# Altium schematic symbol library RCU.SchLib: 94 symbols
Pins are listed as number, name and electrical type; pins without a type are passive.

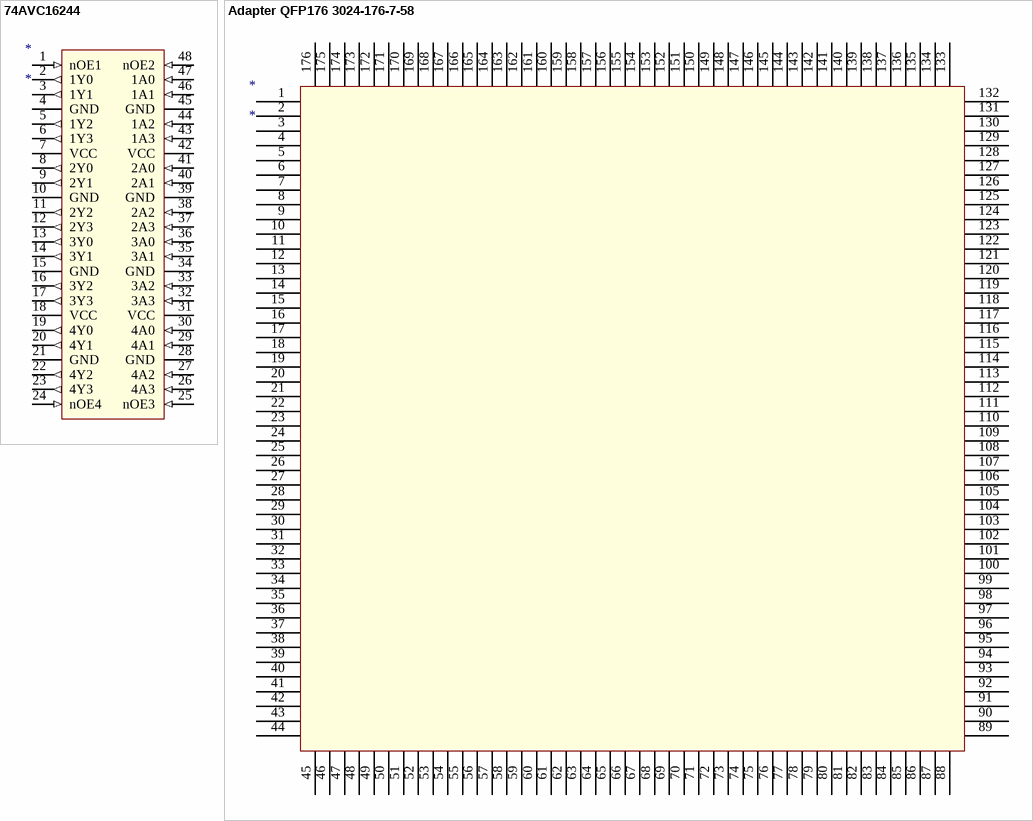
[diagram p0: symbols 74AVC16244 to Adapter QFP176 3024-176-7-58]

## 74AVC16244
designator *
footprint 74AVC16244
pins: 1 nOE1 (in), 2 1Y0 (out), 3 1Y1 (out), 4 GND, 5 1Y2 (out), 6 1Y3 (out), 7 VCC (power), 8 2Y0 (out), 9 2Y1 (out), 10 GND, 11 2Y2 (out), 12 2Y3 (out), 13 3Y0 (out), 14 3Y1 (out), 15 GND, 16 3Y2 (out), 17 3Y3 (out), 18 VCC (power), 19 4Y0 (out), 20 4Y1 (out), 21 GND, 22 4Y2 (out), 23 4Y3 (out), 24 nOE4 (in), 25 nOE3 (in), 26 4A3 (in), 27 4A2 (in), 28 GND, 29 4A1 (in), 30 4A0 (in), 31 VCC (power), 32 3A3 (in), 33 3A2 (in), 34 GND, 35 3A1 (in), 36 3A0 (in), 37 2A3 (in), 38 2A2 (in), 39 GND, 40 2A1 (in), 41 2A0 (in), 42 VCC (power), 43 1A3 (in), 44 1A2 (in), 45 GND, 46 1A1 (in), 47 1A0 (in), 48 nOE2 (in)

## Adapter QFP176 3024-176-7-58
designator *
footprint SOCKET_176_3024-176-7-58
pins: 1, 2, 3, 4, 5, 6, 7, 8, 9, 10, 11, 12, 13, 14, 15, 16, 17, 18, 19, 20, 21, 22, 23, 24, 25, 26, 27, 28, 29, 30, 31, 32, 33, 34, 35, 36, 37, 38, 39, 40, 41, 42, 43, 44, 45, 46, 47, 48, 49, 50, 51, 52, 53, 54, 55, 56, 57, 58, 59, 60, 61, 62, 63, 64, 65, 66, 67, 68, 69, 70, 71, 72, 73, 74, 75, 76, 77, 78, 79, 80, 81, 82, 83, 84, 85, 86, 87, 88, 89, 90, 91, 92, 93, 94, 95, 96, 97, 98, 99, 100, 101, 102, 103, 104, 105, 106, 107, 108, 109, 110, 111, 112, 113, 114, 115, 116, 117, 118, 119, 120, 121, 122, 123, 124, 125, 126, 127, 128, 129, 130, 131, 132, 133, 134, 135, 136, 137, 138, 139, 140, 141, 142, 143, 144, 145, 146, 147, 148, 149, 150, 151, 152, 153, 154, 155, 156, 157, 158, 159, 160, 161, 162, 163, 164, 165, 166, 167, 168, 169, 170, 171, 172, 173, 174, 175, 176

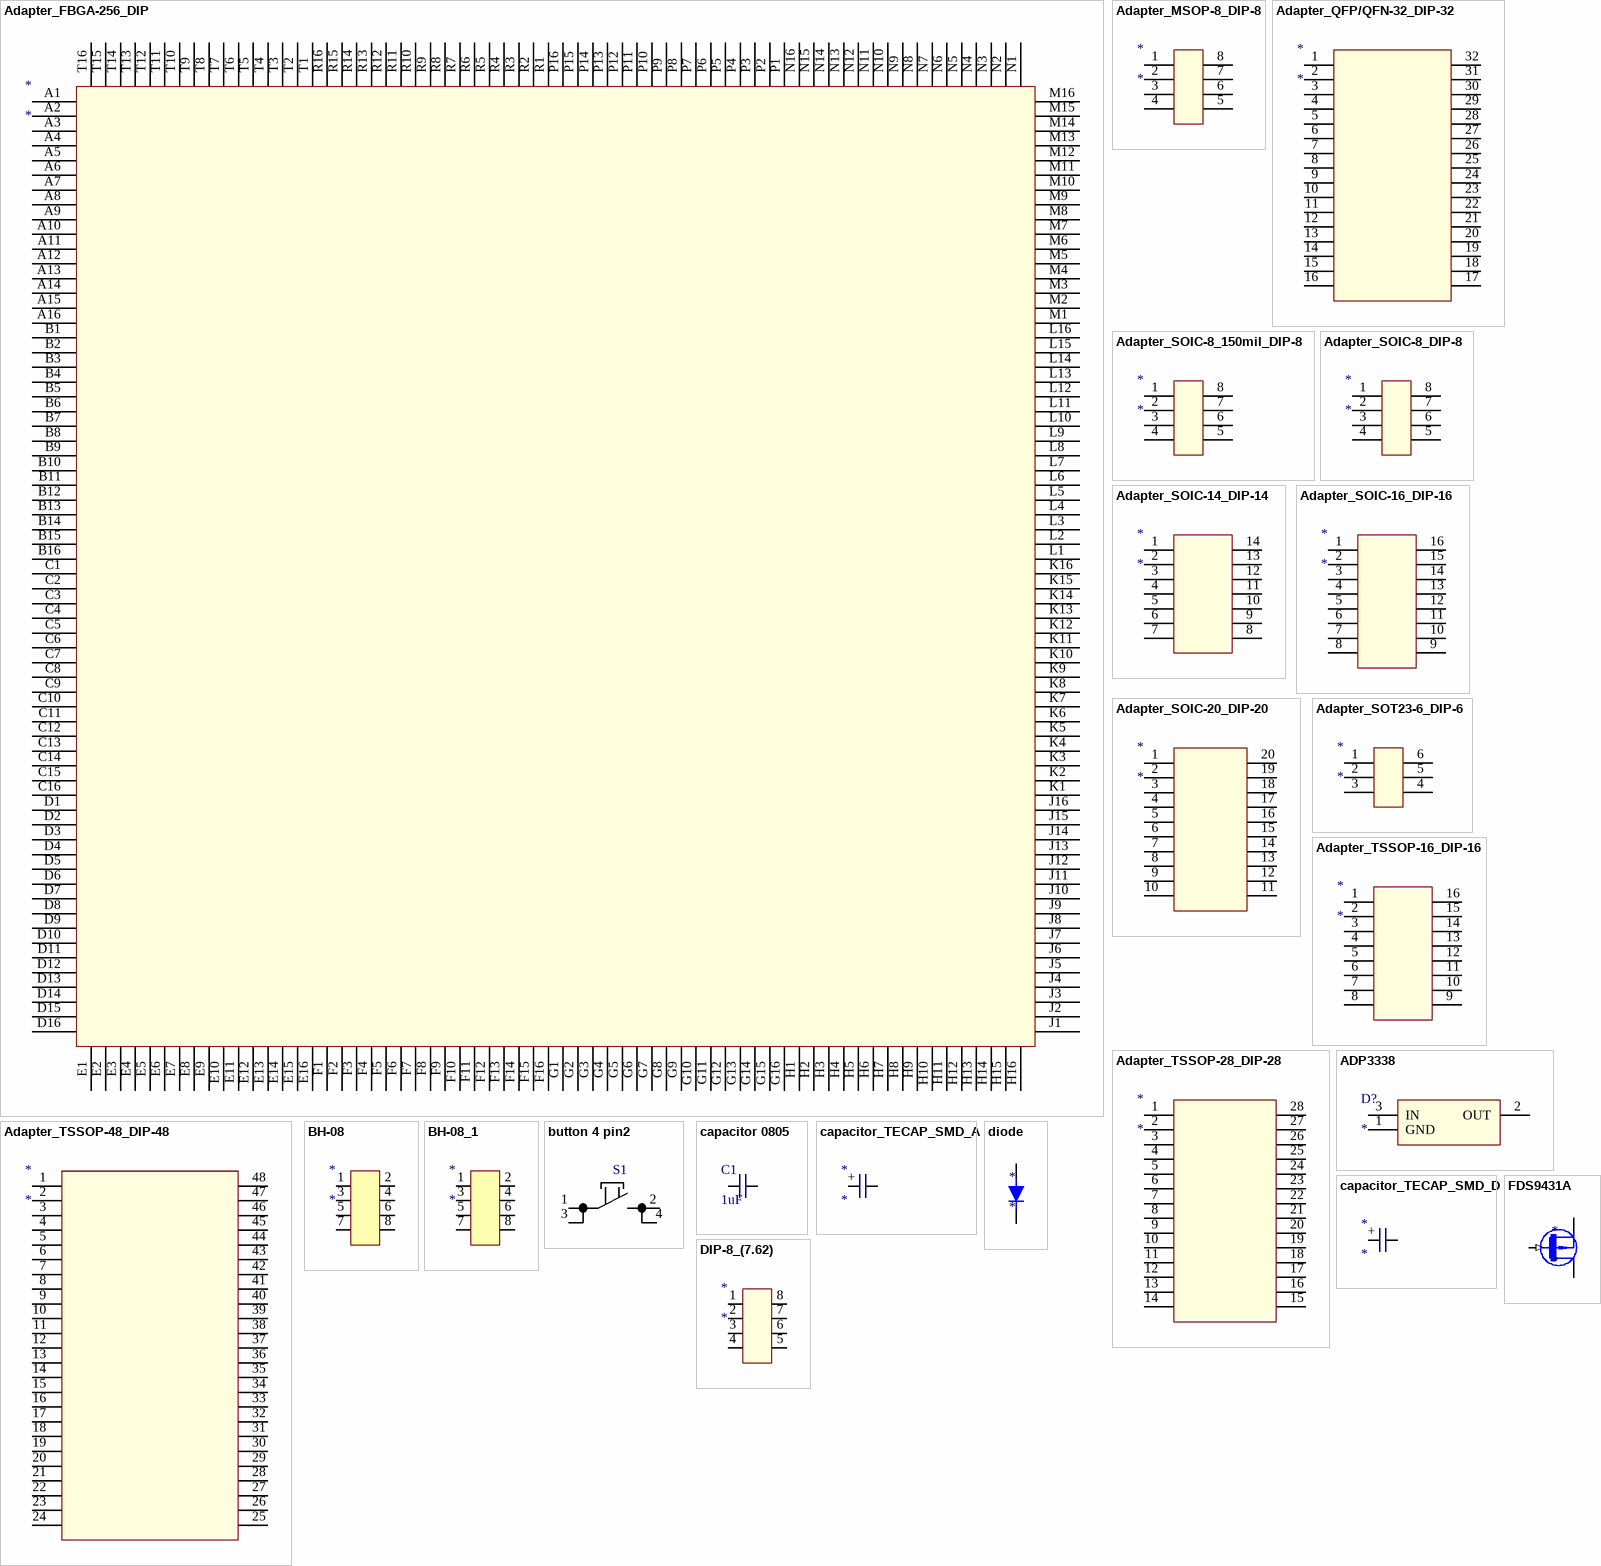
[diagram p1: symbols Adapter_FBGA-256_DIP to FDS9431A]

## Adapter_FBGA-256_DIP
designator *
footprint Adapter_FBGA-256_DIP
pins: A1, A2, A3, A4, A5, A6, A7, A8, A9, A10, A11, A12, A13, A14, A15, A16, B1, B2, B3, B4, B5, B6, B7, B8, B9, B10, B11, B12, B13, B14, B15, B16, C1, C2, C3, C4, C5, C6, C7, C8, C9, C10, C11, C12, C13, C14, C15, C16, D1, D2, D3, D4, D5, D6, D7, D8, D9, D10, D11, D12, D13, D14, D15, D16, E1, E2, E3, E4, E5, E6, E7, E8, E9, E10, E11, E12, E13, E14, E15, E16, F1, F2, F3, F4, F5, F6, F7, F8, F9, F10, F11, F12, F13, F14, F15, F16, G1, G2, G3, G4, G5, G6, G7, G8, G9, G10, G11, G12, G13, G14, G15, G16, H1, H2, H3, H4, H5, H6, H7, H8, H9, H10, H11, H12, H13, H14, H15, H16, J1, J2, J3, J4, J5, J6, J7, J8, J9, J10, J11, J12, J13, J14, J15, J16, K1, K2, K3, K4, K5, K6, K7, K8, K9, K10, K11, K12, K13, K14, K15, K16, L1, L2, L3, L4, L5, L6, L7, L8, L9, L10, L11, L12, L13, L14, L15, L16, M1, M2, M3, M4, M5, M6, M7, M8, M9, M10, M11, M12, M13, M14, M15, M16, N1, N2, N3, N4, N5, N6, N7, N8, N9, N10, N11, N12, N13, N14, N15, N16, P1, P2, P3, P4, P5, P6, P7, P8, P9, P10, P11, P12, P13, P14, P15, P16, R1, R2, R3, R4, R5, R6, R7, R8, R9, R10, R11, R12, R13, R14, R15, R16, T1, T2, T3, T4, T5, T6, T7, T8, T9, T10, T11, T12, T13, T14, T15, T16

## Adapter_MSOP-8_DIP-8
designator *
footprint Adapter_MSOP-8_DIP-8
pins: 1 35, 2 36, 3 37, 4 38, 5 39, 6 40, 7 41, 8 42

## Adapter_QFP/QFN-32_DIP-32
designator *
AE-T-QFN32-02
footprint Adapter_QFP/QFN-32_DIP-32 (AE-T-QFN32-02)
pins: 1, 2, 3, 4, 5, 6, 7, 8, 9, 10, 11, 12, 13, 14, 15, 16, 17, 18, 19, 20, 21, 22, 23, 24, 25, 26, 27, 28, 29, 30, 31, 32

## Adapter_SOIC-8_150mil_DIP-8
designator *
footprint Adapter_SOIC-8_150mil_DIP-8
pins: 1 35, 2 36, 3 37, 4 38, 5 39, 6 40, 7 41, 8 42

## Adapter_SOIC-8_DIP-8
designator *
footprint Adapter_SOIC-8_DIP-8
pins: 1 35, 2 36, 3 37, 4 38, 5 39, 6 40, 7 41, 8 42

## Adapter_SOIC-14_DIP-14
designator *
footprint Adapter_SOIC-14_DIP-14 (652B0142211)
pins: 1, 2, 3, 4, 5, 6, 7, 8, 9, 10, 11, 12, 13, 14

## Adapter_SOIC-16_DIP-16
designator *
footprint Adapter_SOIC-16_DIP-16
pins: 1, 2, 3, 4, 5, 6, 7, 8, 9, 10, 11, 12, 13, 14, 15, 16

## Adapter_SOIC-20_DIP-20
designator *
footprint Adapter_SOIC-20_DIP-20
pins: 1, 2, 3, 4, 5, 6, 7, 8, 9, 10, 11, 12, 13, 14, 15, 16, 17, 18, 19, 20

## Adapter_SOT23-6_DIP-6
designator *
footprint Adapter_SOT23-6_DIP-6
pins: 1, 2, 3, 4, 5, 6

## Adapter_TSSOP-16_DIP-16
designator *
footprint Adapter_TSSOP-16_DIP-16
pins: 1, 2, 3, 4, 5, 6, 7, 8, 9, 10, 11, 12, 13, 14, 15, 16

## Adapter_TSSOP-28_DIP-28
designator *
from aliexpress
footprint Adapter_TSSOP-28_DIP-28 (from aliexpress)
pins: 1 0, 2 1, 3 2, 4 3, 5 4, 6 5, 7 6, 8 7, 9 8, 10 9, 11 10, 12 11, 13 12, 14 13, 15 14, 16 15, 17 16, 18 17, 19 18, 20 19, 21 20, 22 21, 23 22, 24 23, 25 24, 26 25, 27 26, 28 27

## Adapter_TSSOP-48_DIP-48
designator *
footprint Adapter_TSSOP-48_DIP-48
pins: 1, 2, 3, 4, 5, 6, 7, 8, 9, 10, 11, 12, 13, 14, 15, 16, 17, 18, 19, 20, 21, 22, 23, 24, 25, 26, 27, 28, 29, 30, 31, 32, 33, 34, 35, 36, 37, 38, 39, 40, 41, 42, 43, 44, 45, 46, 47, 48

## ADP3338
designator D?
footprint SOT223 (SOT-223/SC-73; 4 Leads; Body 6.7 x 7.3 mm, inc. leads (LxW max))
pins: 1 GND, 2 OUT, 3 IN

## BH-08
designator *
footprint BH-08
pins: 1 0, 2, 3, 4, 5, 6, 7, 8

## BH-08_1
designator *
footprint BH-08
pins: 1 0, 2, 3, 4, 5, 6, 7, 8

## button 4 pin2
designator S1, comment button 4 pin  (value not drawn)
footprint button 4 pin
pins: 1 5, 2, 3, 4

## capacitor 0805
designator C1, comment 1uF
footprint C_0805
pins: 1, 2

## capacitor_TECAP_SMD_A
designator *
footprint C_TECAP_A
pins: 2, +

## capacitor_TECAP_SMD_D
designator *
footprint Model Name (Footprint not found)
footprint C_TECAP_D (Capacitor, SM Tantalum; Body 7.3 x 4.3 mm (LxW typ))
pins: 2, +

## diode
designator *
footprint SOT23-3M (SOT23, 3-Leads, Body 2.9x1.3mm, Pitch 0.95mm, Lead Span 2.5mm)
pins: 1 C, 3 A

## DIP-8_(7.62)
designator *
footprint DIP-8_(7.62)
pins: 1, 2, 3, 4, 5, 6, 7, 8

## FDS9431A
designator *
footprint SO8-150
pins: 1 S (oe), 2 S (oe), 3 S (oe), 4 G (in), 5 D (oc), 6 D (oc), 7 D (oc), 8 D (oc)

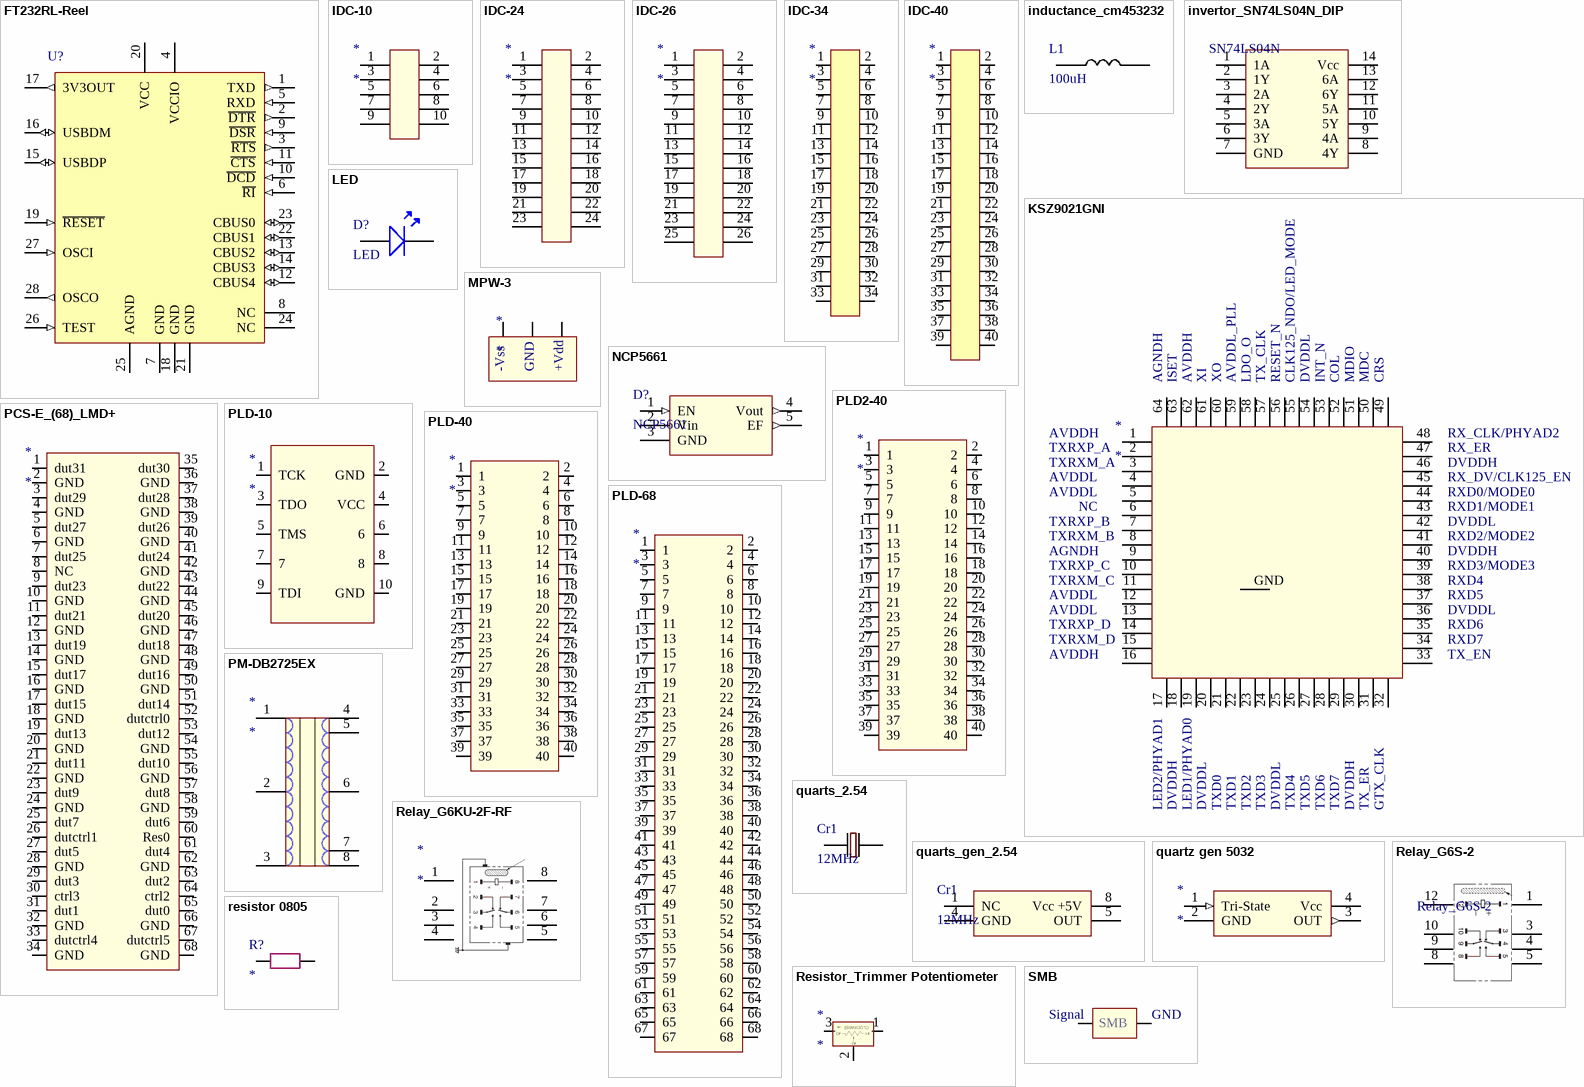
[diagram p2: symbols FT232RL-Reel to SMB]

## FT232RL-Reel
designator U?
USB UART Asynchronous Serial Data Transfer Chip, SSOP-28, Tape and Reel; Published: 19-Aug-2010; DatasheetVersion: ver 2.07, Jul-2010; PackageVersion: 2010; PackageReference: SSOP-28; Publisher: Altium Limited; PackageDescription: 28-Pin Small Outline Package 0.65 mm Pitch; ComponentLink1Description: Manufacturer Link; ComponentLink1URL: http://www.ftdichip.com/Products/ICs/FT232R.htm; ComponentLink2Description: Datasheet; ComponentLink2URL: http://www.ftdichip.com/Support/Documents/DataSheets/ICs/DS_FT232R.pdf
footprint SSOP-28_M (SOP, 28-Leads, Body 10.2x5.3mm, Pitch 0.65mm, IPC Low Density)
pins: 1 TXD (out), 2 ~{DTR} (out), 3 ~{RTS} (out), 4 VCCIO (power), 5 RXD (in), 6 ~{RI} (in), 7 GND (power), 8 NC, 9 ~{DSR} (in), 10 ~{DCD} (in), 11 ~{CTS} (in), 12 CBUS4 (io), 13 CBUS2 (io), 14 CBUS3 (io), 15 USBDP (io), 16 USBDM (io), 17 3V3OUT (out), 18 GND (power), 19 ~{RESET} (in), 20 VCC (power), 21 GND (power), 22 CBUS1 (io), 23 CBUS0 (io), 24 NC, 25 AGND (power), 26 TEST (in), 27 OSCI (in), 28 OSCO (out)

## IDC-10
designator *
разъем 4130
footprint IDC-10
pins: 1, 2, 3, 4, 5, 6, 7, 8, 9, 10

## IDC-24
designator *
footprint IDC-24
pins: 1 145, 2, 3, 4, 5, 6, 7, 8, 9, 10, 11, 12, 13, 14, 15, 16, 17, 18, 19, 20, 21, 22, 23, 24

## IDC-26
designator *
разъем 4142
footprint IDC-26
pins: 1 145, 2, 3, 4, 5, 6, 7, 8, 9, 10, 11, 12, 13, 14, 15, 16, 17, 18, 19, 20, 21, 22, 23, 24, 25, 26

## IDC-34
designator *
разъем 6556
footprint IDC-34
pins: 1 0, 2, 3, 4, 5, 6, 7, 8, 9, 10, 11, 12, 13, 14, 15, 16, 17, 18, 19, 20, 21, 22, 23, 24, 25, 26, 27, 28, 29, 30, 31, 32, 33, 34

## IDC-40
designator *
разъем 2529
footprint IDC-40
pins: 1 0, 2, 3, 4, 5, 6, 7, 8, 9, 10, 11, 12, 13, 14, 15, 16, 17, 18, 19, 20, 21, 22, 23, 24, 25, 26, 27, 28, 29, 30, 31, 32, 33, 34, 35, 36, 37, 38, 39, 40

## inductance_cm453232
designator L1, comment 100uH
footprint inductance_cm453232/322522 (cm3225 тоже лезет)
pins: 1, 2

## invertor_SN74LS04N_DIP
designator SN74LS04N  (value not drawn)
footprint invertor_SN74LS04N_DIP
pins: 1 1A, 2 1Y, 3 2A, 4 2Y, 5 3A, 6 3Y, 7 GND, 8 4Y, 9 4A, 10 5Y, 11 5A, 12 6Y, 13 6A, 14 Vcc

## KSZ9021GNI
designator *
footprint KSZ9021GNI
pins: 1, 2, 3, 4, 5, 6, 7, 8, 9, 10, 11, 12, 13, 14, 15, 16, 17, 18, 19, 20, 21, 22, 23, 24, 25, 26, 27, 28, 29, 30, 31, 32, 33, 34, 35, 36, 37, 38, 39, 40, 41, 42, 43, 44, 45, 46, 47, 48, 49, 50, 51, 52, 53, 54, 55, 56, 57, 58, 59, 60, 61, 62, 63, 64, GND
text: AGNDH; ISET; AVDDH; XI; XO; AVDDL_PLL; LDO_O; TX_CLK; RESET_N; CLK125_NDO/LED_MODE; DVDDL; INT_N; COL; MDIO; MDC; CRS; RX_CLK/PHYAD2; TXRXP_A; RX_ER; TXRXM_A; DVDDH; AVDDL; RX_DV/CLK125_EN; RXD0/MODE0; NC; RXD1/MODE1; TXRXP_B; TXRXM_B; RXD2/MODE2; TXRXP_C; RXD3/MODE3; TXRXM_C; RXD4; RXD5; TXRXP_D; RXD6; TXRXM_D; RXD7; TX_EN; LED2/PHYAD1; LED1/PHYAD0; TXD0; TXD1; TXD2; TXD3; TXD4; TXD5; TXD6; TXD7; TX_ER; GTX_CLK

## LED
designator D?
footprint LED
pins: 1, 2

## MPW-3
designator *
footprint MPW-3
pins: 1, 2, 3
text: -Vss; GND; +Vdd

## NCP5661
designator D?
footprint TO114P990-5_6M (D-PAK, 6-Leads, Body 6.1x6.5mm, Pitch 1.14mm, Lead Span 9.9mm, IPC Low Density)
pins: 1 EN (in), 2 Vin (power), 3 GND (power), 4 Vout (out), 5 EF (out)

## PCS-E_(68)_LMD+
designator *
footprint PCS-E_(68)_LMD+
pins: 1 dut31, 2 GND, 3 dut29, 4 GND, 5 dut27, 6 GND, 7 dut25, 8 NС, 9 dut23, 10 GND, 11 dut21, 12 GND, 13 dut19, 14 GND, 15 dut17, 16 GND, 17 dut15, 18 GND, 19 dut13, 20 GND, 21 dut11, 22 GND, 23 dut9, 24 GND, 25 dut7, 26 dutctrl1, 27 dut5, 28 GND, 29 dut3, 30 ctrl3, 31 dut1, 32 GND, 33 dutctrl4, 34 GND, 35 dut30, 36 GND, 37 dut28, 38 GND, 39 dut26, 40 GND, 41 dut24, 42 GND, 43 dut22, 44 GND, 45 dut20, 46 GND, 47 dut18, 48 GND, 49 dut16, 50 GND, 51 dut14, 52 dutctrl0, 53 dut12, 54 GND, 55 dut10, 56 GND, 57 dut8, 58 GND, 59 dut6, 60 Res0, 61 dut4, 62 GND, 63 dut2, 64 ctrl2, 65 dut0, 66 GND, 67 dutctrl5, 68 GND

## PLD2-40
designator *
footprint PLD2_40
pins: 1, 2, 3, 4, 5, 6, 7, 8, 9, 10, 11, 12, 13, 14, 15, 16, 17, 18, 19, 20, 21, 22, 23, 24, 25, 26, 27, 28, 29, 30, 31, 32, 33, 34, 35, 36, 37, 38, 39, 40

## PLD-10
designator *
footprint PLD-10
pins: 1 TCK, 2 GND, 3 TDO, 4 VCC, 5 TMS, 6, 7, 8, 9 TDI, 10 GND

## PLD-40
designator *
footprint PLD_40
pins: 1, 2, 3, 4, 5, 6, 7, 8, 9, 10, 11, 12, 13, 14, 15, 16, 17, 18, 19, 20, 21, 22, 23, 24, 25, 26, 27, 28, 29, 30, 31, 32, 33, 34, 35, 36, 37, 38, 39, 40

## PLD-68
designator *
footprint PLD_68
pins: 1, 2, 3, 4, 5, 6, 7, 8, 9, 10, 11, 12, 13, 14, 15, 16, 17, 18, 19, 20, 21, 22, 23, 24, 25, 26, 27, 28, 29, 30, 31, 32, 33, 34, 35, 36, 37, 38, 39, 40, 41, 42, 43, 44, 45, 46, 47, 48, 49, 50, 51, 52, 53, 54, 55, 56, 57, 58, 59, 60, 61, 62, 63, 64, 65, 66, 67, 68

## PM-DB2725EX
designator *
footprint PM-DB2725EX
pins: 1, 2, 3, 4, 5, 6, 7, 8

## quarts_2.54
designator Cr1, comment 12MHz
footprint quarts_2.54
pins: 1, 2

## quarts_gen_2.54
designator Cr1, comment 12MHz
footprint quarts_gen_2.54
pins: 1 NC, 4 GND, 5 OUT, 8 Vcc +5V

## quartz gen 5032
designator *
footprint quartz gen smd 5032
pins: 1 Tri-State (in), 2 GND (power), 3 OUT (out), 4 Vcc (power)

## Relay_G6KU-2F-RF
designator *
footprint Relay_G6KU-2F-RF
pins: 1, 2, 3, 4, 5, 6, 7, 8

## Relay_G6S-2
designator Relay?
footprint Relay_G6S-2
pins: 1, 3, 4, 5, 8, 9, 10, 12

## resistor 0805
designator R?
footprint R_0805
pins: 1, 2

## Resistor_Trimmer Potentiometer
designator *
footprint Resistor_Trimmer Potentiometer
pins: 1, 2, 3

## SMB
designator *  (value not drawn)
footprint SMB
pins: 0, 1
text: Signal; GND

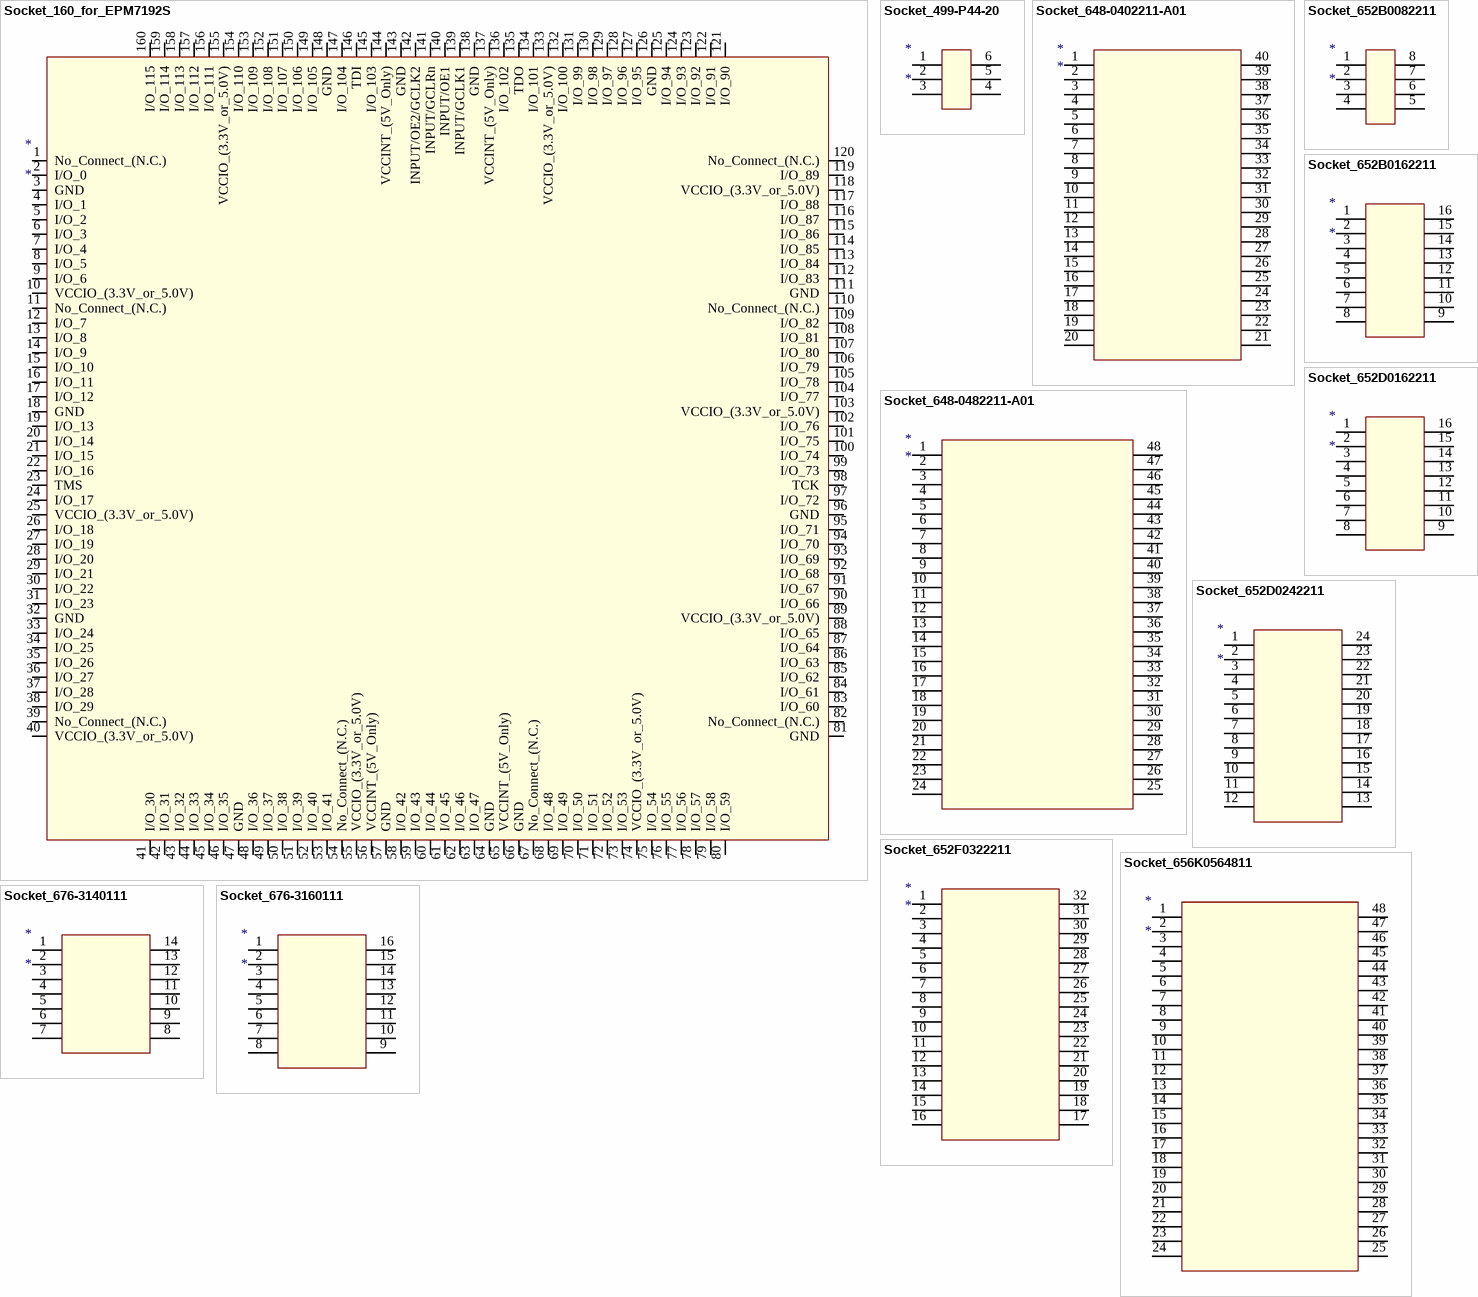
[diagram p3: symbols Socket_160_for_EPM7192S to Socket_676-3160111]

## Socket_160_for_EPM7192S
designator *
footprint Socket_160_for_EPM7192S
pins: 1 No_Connect_(N.C.), 2 I/O_0, 3 GND, 4 I/O_1, 5 I/O_2, 6 I/O_3, 7 I/O_4, 8 I/O_5, 9 I/O_6, 10 VCCIO_(3.3V_or_5.0V), 11 No_Connect_(N.C.), 12 I/O_7, 13 I/O_8, 14 I/O_9, 15 I/O_10, 16 I/O_11, 17 I/O_12, 18 GND, 19 I/O_13, 20 I/O_14, 21 I/O_15, 22 I/O_16, 23 TMS, 24 I/O_17, 25 VCCIO_(3.3V_or_5.0V), 26 I/O_18, 27 I/O_19, 28 I/O_20, 29 I/O_21, 30 I/O_22, 31 I/O_23, 32 GND, 33 I/O_24, 34 I/O_25, 35 I/O_26, 36 I/O_27, 37 I/O_28, 38 I/O_29, 39 No_Connect_(N.C.), 40 VCCIO_(3.3V_or_5.0V), 41 I/O_30, 42 I/O_31, 43 I/O_32, 44 I/O_33, 45 I/O_34, 46 I/O_35, 47 GND, 48 I/O_36, 49 I/O_37, 50 I/O_38, 51 I/O_39, 52 I/O_40, 53 I/O_41, 54 No_Connect_(N.C.), 55 VCCIO_(3.3V_or_5.0V), 56 VCCINT_(5V_Only), 57 GND, 58 I/O_42, 59 I/O_43, 60 I/O_44, 61 I/O_45, 62 I/O_46, 63 I/O_47, 64 GND, 65 VCCINT_(5V_Only), 66 GND, 67 No_Connect_(N.C.), 68 I/O_48, 69 I/O_49, 70 I/O_50, 71 I/O_51, 72 I/O_52, 73 I/O_53, 74 VCCIO_(3.3V_or_5.0V), 75 I/O_54, 76 I/O_55, 77 I/O_56, 78 I/O_57, 79 I/O_58, 80 I/O_59, 81 GND, 82 No_Connect_(N.C.), 83 I/O_60, 84 I/O_61, 85 I/O_62, 86 I/O_63, 87 I/O_64, 88 I/O_65, 89 VCCIO_(3.3V_or_5.0V), 90 I/O_66, 91 I/O_67, 92 I/O_68, 93 I/O_69, 94 I/O_70, 95 I/O_71, 96 GND, 97 I/O_72, 98 TCK, 99 I/O_73, 100 I/O_74, 101 I/O_75, 102 I/O_76, 103 VCCIO_(3.3V_or_5.0V), 104 I/O_77, 105 I/O_78, 106 I/O_79, 107 I/O_80, 108 I/O_81, 109 I/O_82, 110 No_Connect_(N.C.), 111 GND, 112 I/O_83, 113 I/O_84, 114 I/O_85, 115 I/O_86, 116 I/O_87, 117 I/O_88, 118 VCCIO_(3.3V_or_5.0V), 119 I/O_89, 120 No_Connect_(N.C.), 121 I/O_90, 122 I/O_91, 123 I/O_92, 124 I/O_93, 125 I/O_94, 126 GND, 127 I/O_95, 128 I/O_96, 129 I/O_97, 130 I/O_98, 131 I/O_99, 132 I/O_100, 133 VCCIO_(3.3V_or_5.0V), 134 I/O_101, 135 TDO, 136 I/O_102, 137 VCCINT_(5V_Only), 138 GND, 139 INPUT/GCLK1, 140 INPUT/OE1, 141 INPUT/GCLRn, 142 INPUT/OE2/GCLK2, 143 GND, 144 VCCINT_(5V_Only), 145 I/O_103, 146 TDI, 147 I/O_104, 148 GND, 149 I/O_105, 150 I/O_106, 151 I/O_107, 152 I/O_108, 153 I/O_109, 154 I/O_110, 155 VCCIO_(3.3V_or_5.0V), 156 I/O_111, 157 I/O_112, 158 I/O_113, 159 I/O_114, 160 I/O_115

## Socket_499-P44-20
designator *
footprint Socket_499-P44-20
pins: 1, 2, 3, 4, 5, 6

## Socket_648-0402211-A01
designator *
footprint Socket_648-0402211-A01
pins: 1, 2, 3, 4, 5, 6, 7, 8, 9, 10, 11, 12, 13, 14, 15, 16, 17, 18, 19, 20, 21, 22, 23, 24, 25, 26, 27, 28, 29, 30, 31, 32, 33, 34, 35, 36, 37, 38, 39, 40

## Socket_648-0482211-A01
designator *
footprint Socket_648-0482211-A01
pins: 1, 2, 3, 4, 5, 6, 7, 8, 9, 10, 11, 12, 13, 14, 15, 16, 17, 18, 19, 20, 21, 22, 23, 24, 25, 26, 27, 28, 29, 30, 31, 32, 33, 34, 35, 36, 37, 38, 39, 40, 41, 42, 43, 44, 45, 46, 47, 48

## Socket_652B0082211
designator *
footprint Socket_652B0082211
pins: 1 35, 2 36, 3 37, 4 38, 5 39, 6 40, 7 41, 8 42

## Socket_652B0162211
designator *
footprint Socket_652B0162211
pins: 1 35, 2 36, 3 37, 4 38, 5 39, 6 40, 7 41, 8 42, 9, 10, 11, 12, 13, 14, 15, 16

## Socket_652D0162211
designator *
footprint Socket_652D0162211
pins: 1, 2, 3, 4, 5, 6, 7, 8, 9, 10, 11, 12, 13, 14, 15, 16

## Socket_652D0242211
designator *
footprint Socket_652D0242211
pins: 1 35, 2 36, 3 37, 4 38, 5 39, 6 40, 7 41, 8 42, 9, 10, 11, 12, 13, 14, 15, 16, 17, 18, 19, 20, 21, 22, 23, 24

## Socket_652F0322211
designator *
footprint Socket_652F0322211
pins: 1, 2, 3, 4, 5, 6, 7, 8, 9, 10, 11, 12, 13, 14, 15, 16, 17, 18, 19, 20, 21, 22, 23, 24, 25, 26, 27, 28, 29, 30, 31, 32

## Socket_656K0564811
designator *
footprint Socket_656K0564811
pins: 1, 2, 3, 4, 5, 6, 7, 8, 9, 10, 11, 12, 13, 14, 15, 16, 17, 18, 19, 20, 21, 22, 23, 24, 25, 26, 27, 28, 29, 30, 31, 32, 33, 34, 35, 36, 37, 38, 39, 40, 41, 42, 43, 44, 45, 46, 47, 48

## Socket_676-3140111
designator *
footprint Socket_676-3140111
pins: 1 101, 2 102, 3 103, 4 104, 5 105, 6 106, 7 107, 8, 9 109, 10 110, 11 111, 12 112, 13 113, 14 114

## Socket_676-3160111
designator *
footprint Socket_676-3160111
pins: 1 101, 2 102, 3 103, 4 104, 5 105, 6 106, 7 107, 8 108, 9 109, 10 110, 11 111, 12 112, 13 113, 14 114, 15 115, 16 116

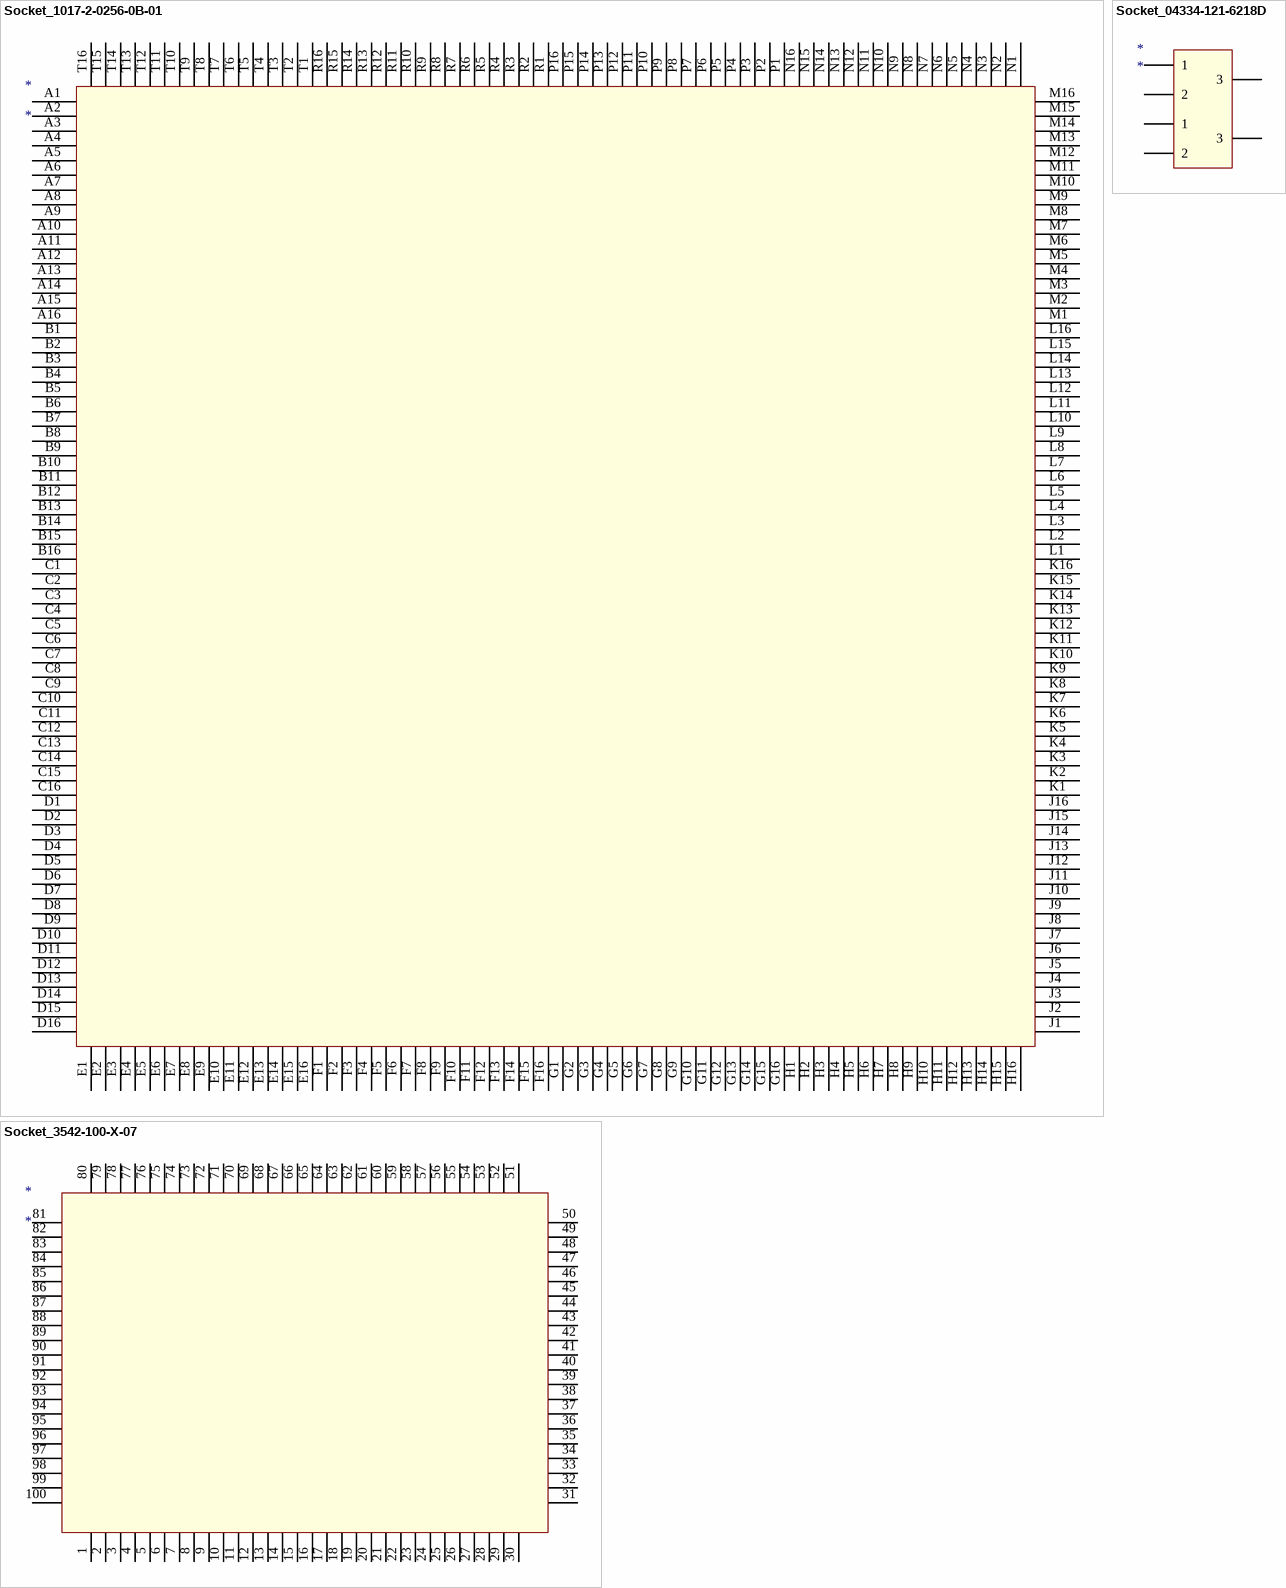
[diagram p4: symbols Socket_1017-2-0256-0B-01 to Socket_04334-121-6218D]

## Socket_1017-2-0256-0B-01
designator *
footprint Socket_1017-2-0256-0B-01
pins: A1, A2, A3, A4, A5, A6, A7, A8, A9, A10, A11, A12, A13, A14, A15, A16, B1, B2, B3, B4, B5, B6, B7, B8, B9, B10, B11, B12, B13, B14, B15, B16, C1, C2, C3, C4, C5, C6, C7, C8, C9, C10, C11, C12, C13, C14, C15, C16, D1, D2, D3, D4, D5, D6, D7, D8, D9, D10, D11, D12, D13, D14, D15, D16, E1, E2, E3, E4, E5, E6, E7, E8, E9, E10, E11, E12, E13, E14, E15, E16, F1, F2, F3, F4, F5, F6, F7, F8, F9, F10, F11, F12, F13, F14, F15, F16, G1, G2, G3, G4, G5, G6, G7, G8, G9, G10, G11, G12, G13, G14, G15, G16, H1, H2, H3, H4, H5, H6, H7, H8, H9, H10, H11, H12, H13, H14, H15, H16, J1, J2, J3, J4, J5, J6, J7, J8, J9, J10, J11, J12, J13, J14, J15, J16, K1, K2, K3, K4, K5, K6, K7, K8, K9, K10, K11, K12, K13, K14, K15, K16, L1, L2, L3, L4, L5, L6, L7, L8, L9, L10, L11, L12, L13, L14, L15, L16, M1, M2, M3, M4, M5, M6, M7, M8, M9, M10, M11, M12, M13, M14, M15, M16, N1, N2, N3, N4, N5, N6, N7, N8, N9, N10, N11, N12, N13, N14, N15, N16, P1, P2, P3, P4, P5, P6, P7, P8, P9, P10, P11, P12, P13, P14, P15, P16, R1, R2, R3, R4, R5, R6, R7, R8, R9, R10, R11, R12, R13, R14, R15, R16, T1, T2, T3, T4, T5, T6, T7, T8, T9, T10, T11, T12, T13, T14, T15, T16

## Socket_3542-100-X-07
designator *
footprint Socket_3542-100-X-07
pins: 1 name, 2, 3, 4, 5, 6, 7, 8, 9, 10, 11, 12, 13, 14, 15, 16, 17, 18, 19, 20, 21, 22, 23, 24, 25, 26, 27, 28, 29, 30, 31, 32, 33, 34, 35, 36, 37, 38, 39, 40, 41, 42, 43, 44, 45, 46, 47, 48, 49, 50, 51, 52, 53, 54, 55, 56, 57, 58, 59, 60, 61, 62, 63, 64, 65, 66, 67, 68, 69, 70, 71, 72, 73, 74, 75, 76, 77, 78, 79, 80, 81, 82, 83, 84, 85, 86, 87, 88, 89, 90, 91, 92, 93, 94, 95, 96, 97, 98, 99, 100

## Socket_04334-121-6218D
designator *
footprint Socket_04334-121-6218D
pins: 1, 2, 3, 11 1, 12 2, 13 3

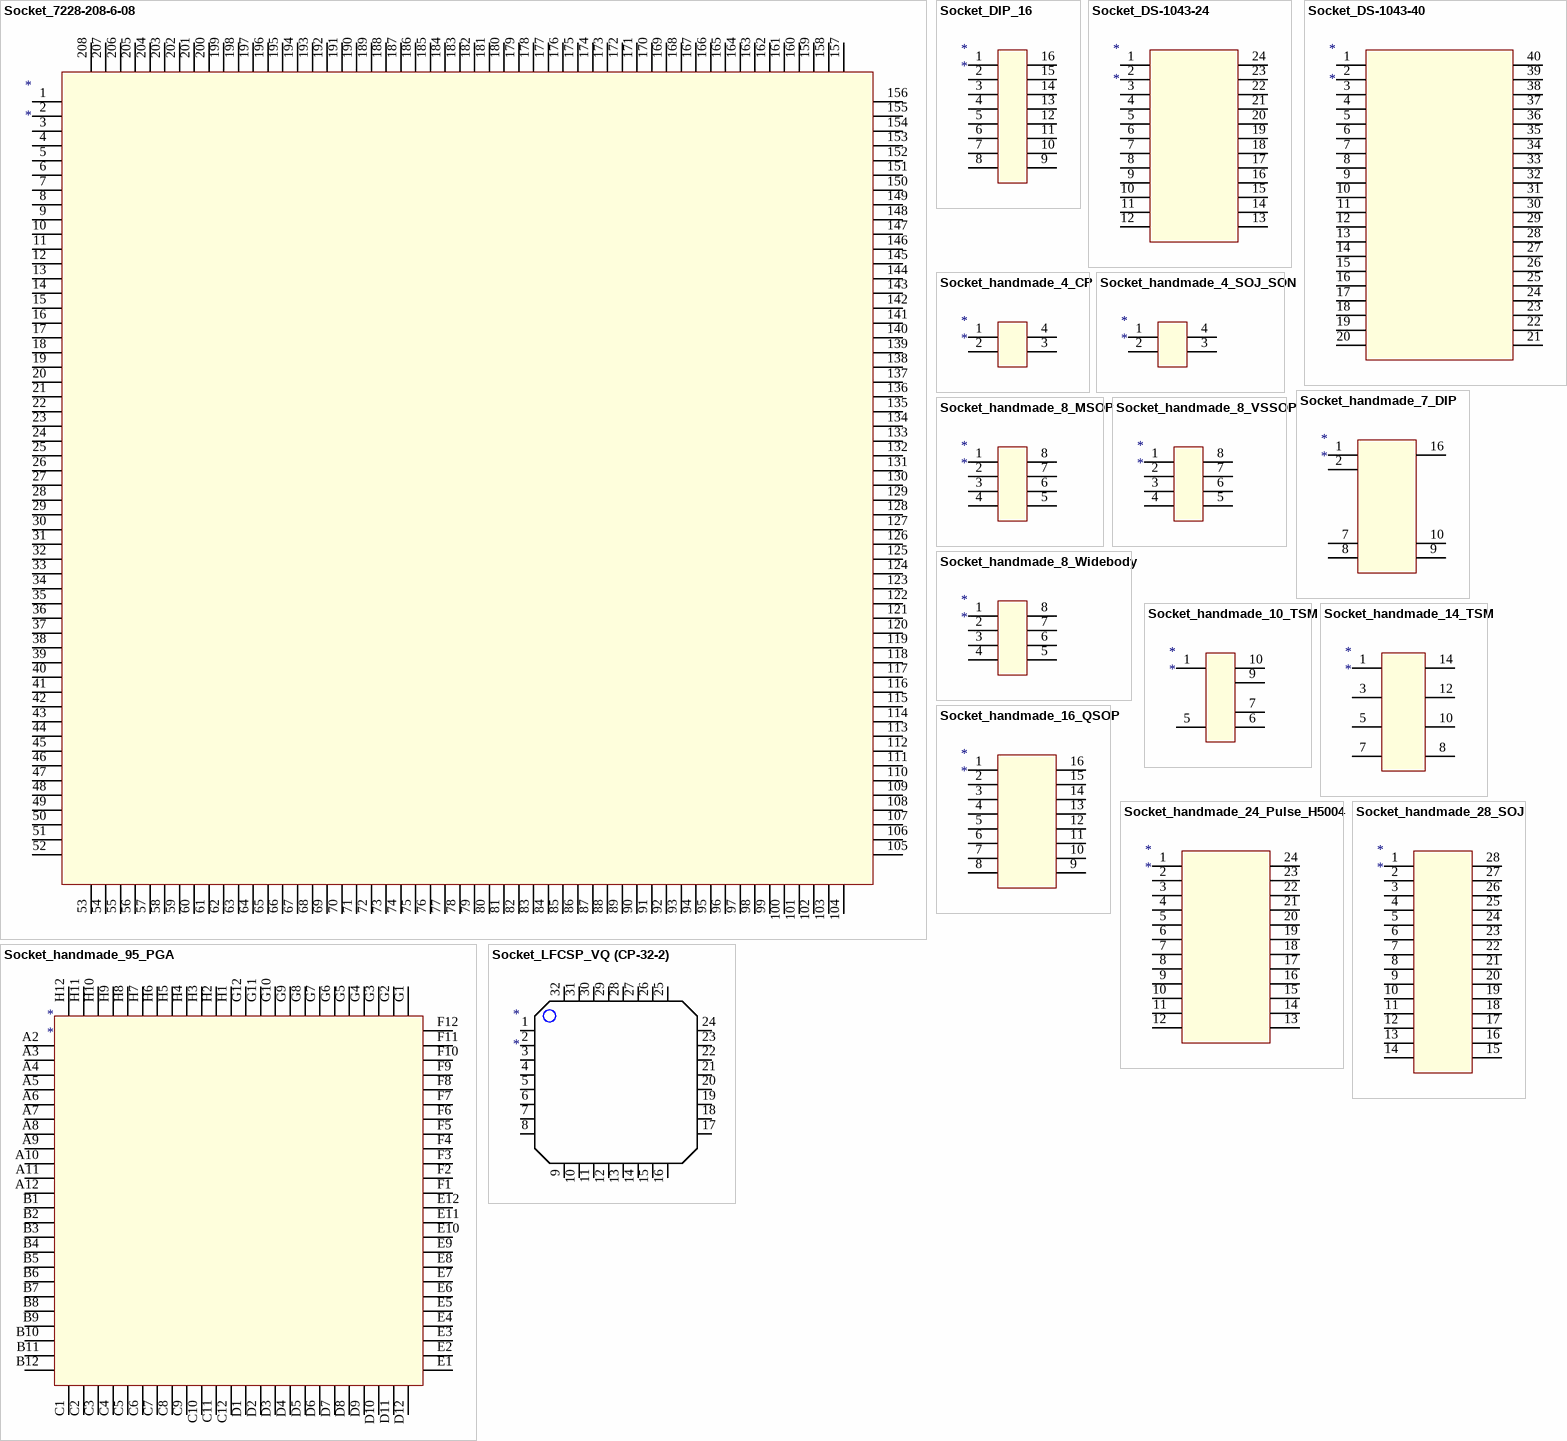
[diagram p5: symbols Socket_7228-208-6-08 to Socket_LFCSP_VQ (CP-32-2)]

## Socket_7228-208-6-08
designator *
footprint Socket_7228-208-6-08
pins: 1 43, 2 44, 3 45, 4 46, 5 47, 6 48, 7 49, 8 50, 9 51, 10 52, 11 53, 12 54, 13 55, 14 56, 15 57, 16 58, 17 59, 18 60, 19 61, 20 62, 21 63, 22 64, 23 65, 24 66, 25 67, 26 68, 27 69, 28 70, 29 71, 30 72, 31 73, 32 74, 33 75, 34 76, 35 77, 36 78, 37 79, 38 80, 39 81, 40 82, 41 83, 42 84, 43 85, 44 86, 45 87, 46 88, 47 89, 48 90, 49 91, 50 92, 51 93, 52 94, 53 95, 54 96, 55 97, 56 98, 57 99, 58 100, 59 101, 60 102, 61 103, 62 104, 63 105, 64 106, 65 107, 66 108, 67 109, 68 110, 69 111, 70 112, 71 113, 72 114, 73 115, 74 116, 75 117, 76 118, 77 119, 78 120, 79 121, 80 122, 81 123, 82 124, 83 125, 84 126, 85 127, 86 128, 87 129, 88 130, 89 131, 90 132, 91 133, 92 134, 93 135, 94 136, 95 137, 96 138, 97 139, 98 140, 99 141, 100 142, 101 143, 102 144, 103 145, 104 146, 105 147, 106 148, 107 149, 108 150, 109 151, 110 152, 111 153, 112 154, 113 155, 114 156, 115 157, 116 158, 117 159, 118 160, 119 161, 120 162, 121 163, 122 164, 123 165, 124 166, 125 167, 126 168, 127 169, 128 170, 129 171, 130 172, 131 173, 132 174, 133 175, 134 176, 135 177, 136 178, 137 179, 138 180, 139 181, 140 182, 141 183, 142 184, 143 185, 144 186, 145 187, 146 188, 147 189, 148 190, 149 191, 150 192, 151 193, 152 194, 153 195, 154 196, 155 197, 156 198, 157 199, 158 200, 159 201, 160 202, 161 203, 162 204, 163 205, 164 206, 165 207, 166 208, 167 209, 168 210, 169 211, 170 212, 171 213, 172 214, 173 215, 174 216, 175 217, 176 218, 177 219, 178 220, 179 221, 180 222, 181 223, 182 224, 183 225, 184 226, 185 227, 186 228, 187 229, 188 230, 189 231, 190 232, 191 233, 192 234, 193 235, 194 236, 195 237, 196 238, 197 239, 198 240, 199 241, 200 242, 201 243, 202 244, 203 245, 204 246, 205 247, 206 248, 207 249, 208 250

## Socket_DIP_16
designator *
footprint Socket_DIP_16
pins: 1, 2, 3, 4, 5, 6, 7, 8, 9, 10, 11, 12, 13, 14, 15, 16

## Socket_DS-1043-24
designator *
footprint Socket_DS-1043-24
pins: 1, 2, 3, 4, 5, 6, 7, 8, 9, 10, 11, 12, 13, 14, 15, 16, 17, 18, 19, 20, 21, 22, 23, 24

## Socket_DS-1043-40
designator *
footprint Socket_DS-1043-40
pins: 1, 2, 3, 4, 5, 6, 7, 8, 9, 10, 11, 12, 13, 14, 15, 16, 17, 18, 19, 20, 21, 22, 23, 24, 25, 26, 27, 28, 29, 30, 31, 32, 33, 34, 35, 36, 37, 38, 39, 40

## Socket_handmade_4_CP
designator *
footprint Socket_handmade_4_CP
pins: 1, 2, 3, 4

## Socket_handmade_4_SOJ_SON
designator *
footprint Socket_handmade_4_SOJ_SON
pins: 1, 2, 3, 4

## Socket_handmade_7_DIP
designator *
footprint Socket_handmade_7_DIP
pins: 1, 2, 7, 8, 9, 10, 16 11

## Socket_handmade_8_MSOP
designator *
footprint Socket_handmade_8_MSOP
pins: 1, 2, 3, 4, 5, 6, 7, 8

## Socket_handmade_8_VSSOP
designator *
footprint Socket_handmade_8_VSSOP
pins: 1, 2, 3, 4, 5, 6, 7, 8

## Socket_handmade_8_Widebody
designator *
footprint Socket_handmade_8_Widebody
pins: 1, 2, 3, 4, 5, 6, 7, 8

## Socket_handmade_10_TSM
designator *
footprint Socket_handmade_10_TSM
pins: 1, 5, 6, 7, 9, 10

## Socket_handmade_14_TSM
designator *
footprint Socket_handmade_14_TSM
pins: 1, 3, 5, 7, 8, 10, 12, 14

## Socket_handmade_16_QSOP
designator *
footprint Socket_handmade_16_QSOP
pins: 1, 2, 3, 4, 5, 6, 7, 8, 9, 10, 11, 12, 13, 14, 15, 16

## Socket_handmade_24_Pulse_H5004
designator *
footprint Socket_handmade_24_Pulse_H5004
pins: 1, 2, 3, 4, 5, 6, 7, 8, 9, 10, 11, 12, 13, 14, 15, 16, 17, 18, 19, 20, 21, 22, 23, 24

## Socket_handmade_28_SOJ
designator *
footprint Socket_handmade_28_SOJ
pins: 1, 2, 3, 4, 5, 6, 7, 8, 9, 10, 11, 12, 13, 14, 15, 16, 17, 18, 19, 20, 21, 22, 23, 24, 25, 26, 27, 28

## Socket_handmade_95_PGA
designator *
pins: A2 2, A3 3, A4 4, A5 5, A6 6, A7 7, A8 8, A9 9, A10 10, A11 11, A12, B1, B2, B3, B4, B5, B6, B7, B8, B9, B10, B11, B12, C1, C2, C3, C4, C5, C6, C7, C8, C9, C10, C11, C12, D1, D2, D3, D4, D5, D6, D7, D8, D9, D10, D11, D12, E1, E2, E3, E4, E5, E6, E7, E8, E9, E10, E11, E12, F1, F2, F3, F4, F5, F6, F7, F8, F9, F10, F11, F12, G1, G2, G3, G4, G5, G6, G7, G8, G9, G10, G11, G12, H1, H2, H3, H4, H5, H6, H7, H8, H9, H10, H11, H12

## Socket_LFCSP_VQ (CP-32-2)
designator *
footprint Socket_QFN-32 (790-42032-101T)
pins: 1, 2, 3, 4, 5, 6, 7, 8, 9, 10, 11, 12, 13, 14, 15, 16, 17, 18, 19, 20, 21, 22, 23, 24, 25, 26, 27, 28, 29, 30, 31, 32

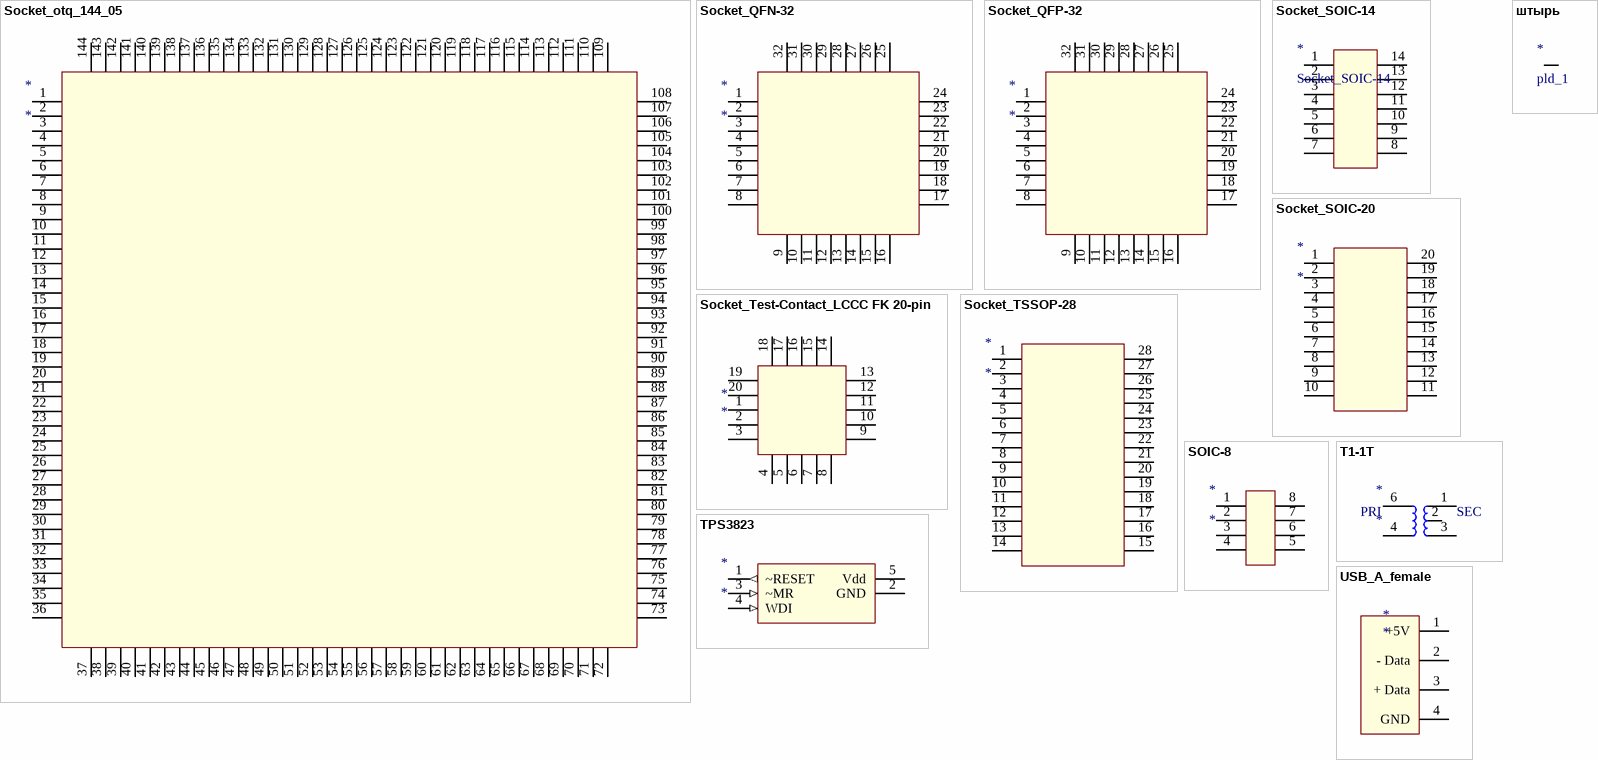
[diagram p6: symbols Socket_otq_144_05 to штырь]

## Socket_otq_144_05
designator *
footprint Socket_144_05
pins: 1 251, 2 252, 3 253, 4 254, 5 255, 6 256, 7 257, 8 258, 9 259, 10 260, 11 261, 12 262, 13 263, 14 264, 15 265, 16 266, 17 267, 18 268, 19 269, 20 270, 21 271, 22 272, 23 273, 24 274, 25 275, 26 276, 27 277, 28 278, 29 279, 30 280, 31 281, 32 282, 33 283, 34 284, 35 285, 36 286, 37 287, 38 288, 39 289, 40 290, 41 291, 42 292, 43 293, 44 294, 45 295, 46 296, 47 297, 48 298, 49 299, 50 300, 51 301, 52 302, 53 303, 54 304, 55 305, 56 306, 57 307, 58 308, 59 309, 60 310, 61 311, 62 312, 63 313, 64 314, 65 315, 66 316, 67 317, 68 318, 69 319, 70 320, 71 321, 72 322, 73 323, 74 324, 75 325, 76 326, 77 327, 78 328, 79 329, 80 330, 81 331, 82 332, 83 333, 84 334, 85 335, 86 336, 87 337, 88 338, 89 339, 90 340, 91 341, 92 342, 93 343, 94 344, 95 345, 96 346, 97 347, 98 348, 99 349, 100 350, 101 351, 102 352, 103 353, 104 354, 105 355, 106 356, 107 357, 108 358, 109 359, 110, 111, 112, 113, 114, 115, 116, 117, 118, 119, 120, 121, 122, 123, 124, 125, 126, 127, 128, 129, 130, 131, 132, 133, 134, 135, 136, 137, 138, 139, 140, 141, 142, 143, 144

## Socket_QFN-32
designator *
790-42032-101T
footprint Socket_QFN-32 (790-42032-101T)
pins: 1 35, 2 36, 3 37, 4 38, 5 39, 6 40, 7 41, 8 42, 9 43, 10 44, 11 45, 12 46, 13 47, 14 48, 15 49, 16 50, 17 51, 18 52, 19 53, 20 54, 21 55, 22 56, 23 57, 24 58, 25 59, 26 60, 27 61, 28 62, 29 63, 30 64, 31 65, 32 66

## Socket_QFP-32
designator *
7007-032-0-07
footprint Socket_QFP-32 (Footprint not found)
pins: 1 35, 2 36, 3 37, 4 38, 5 39, 6 40, 7 41, 8 42, 9 43, 10 44, 11 45, 12 46, 13 47, 14 48, 15 49, 16 50, 17 51, 18 52, 19 53, 20 54, 21 55, 22 56, 23 57, 24 58, 25 59, 26 60, 27 61, 28 62, 29 63, 30 64, 31 65, 32 66

## Socket_SOIC-14
designator *
652B0142211
footprint Socket_SOIC-14 (652B0142211)
pins: 1 35, 2 36, 3 37, 4 38, 5 39, 6 40, 7 41, 8 42, 9, 10, 11, 12, 13, 14

## Socket_SOIC-20
designator *
652D0202211
footprint Socket_SOIC-20 (652D0202211)
pins: 1, 2, 3, 4, 5, 6, 7, 8, 9, 10, 11, 12, 13, 14, 15, 16, 17, 18, 19, 20

## Socket_Test-Contact_LCCC FK 20-pin
designator *
footprint Socket_Test-Contact_LCCC FK 20-pin
pins: 1, 2, 3, 4, 5, 6, 7, 8, 9, 10, 11, 12, 13, 14, 15, 16, 17, 18, 19, 20

## Socket_TSSOP-28
designator *
pins: 1 0, 2 1, 3 2, 4 3, 5 4, 6 5, 7 6, 8 7, 9 8, 10 9, 11 10, 12 11, 13 12, 14 13, 15 14, 16 15, 17 16, 18 17, 19 18, 20 19, 21 20, 22 21, 23 22, 24 23, 25 24, 26 25, 27 26, 28 27

## SOIC-8
designator *
footprint SOIC-8
pins: 1, 2, 3, 4, 5, 6, 7, 8

## T1-1T
designator *
footprint T1-1T
pins: 1 SEC, 2 SEC_CT, 3 SEC_DOT, 4 PRIM_DOT, 6 PRIM
text: PRI

## TPS3823
designator *
footprint SOT23-5 (SOT23, 5-Leads, Body 2.9x1.3mm, Pitch 0.95mm, Lead Span 2.5mm)
pins: 1 ~RESET (out), 2 GND (power), 3 ~MR (in), 4 WDI (in), 5 Vdd (power)

## USB_A_female
designator *
footprint USB_A_female
pins: 1 +5V, 2 - Data, 3 + Data, 4 GND

## штырь
designator *, comment pld_1
footprint Штырь
pins: 1